# Altium footprint library Microchip PIC18.PcbLib: 79 footprints (part 1 of 5)
Each footprint in its own frame and in the unit in brackets; x right, y up, seen from the top. Pads: shape width x height; smd on the part's side, far side on the other; paste and mask are expansions set on the pad; w line width, h text height; cw(c..) or ccw(c..) is an arc to the next point about the centre after c.
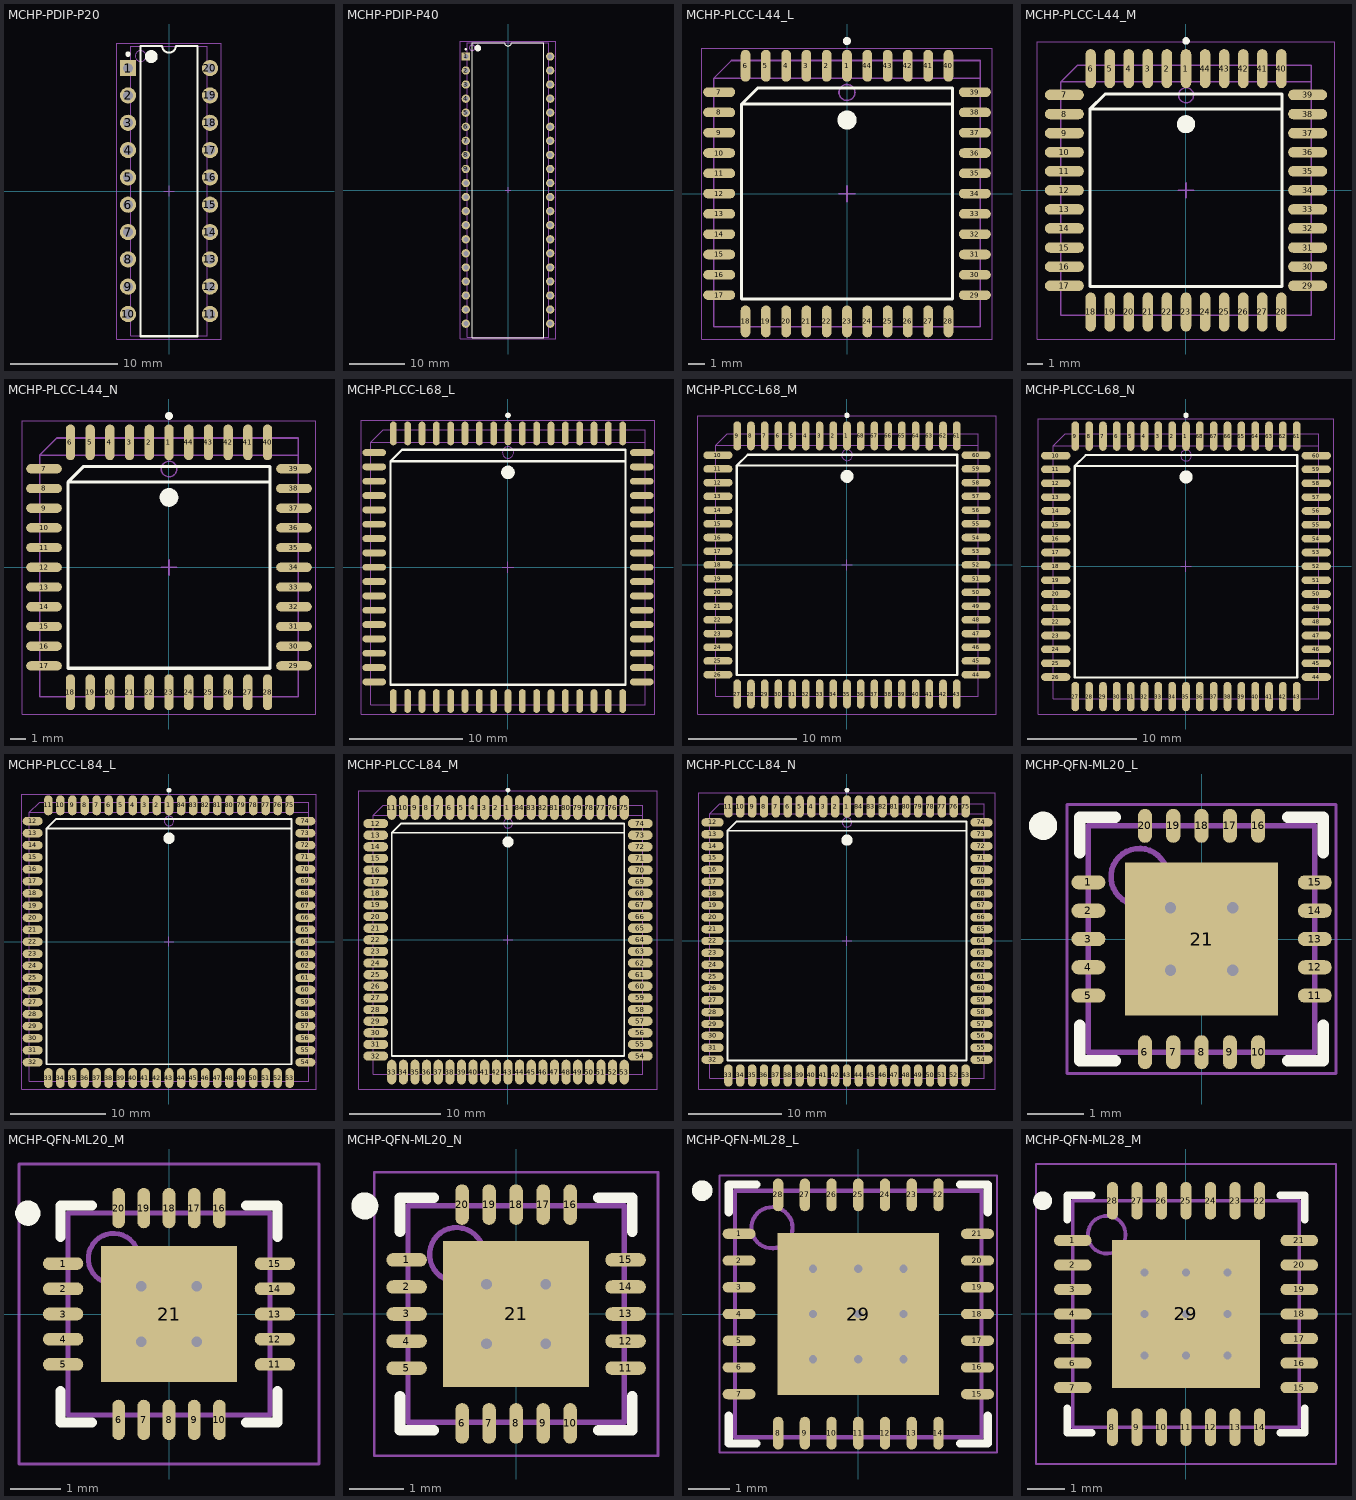
[diagram p0: the footprints below, top view; thin cyan lines are the x and y axes]

## MCHP-PDIP-P20 [mm] "DIP, 20-Leads, Body 25.91x6.6mm, Pitch 2.54mm"
height 5.33
pads (20):
  rect 1.5x1.5 hole 0.9: 1(-3.81,11.43)
  round 1.5 hole 0.9: 2(-3.81,8.89) 3(-3.81,6.35) 4(-3.81,3.81) 5(-3.81,1.27) 6(-3.81,-1.27) 7(-3.81,-3.81) 8(-3.81,-6.35) 9(-3.81,-8.89) 10(-3.81,-11.43) 11(3.81,-11.43) 12(3.81,-8.89) 13(3.81,-6.35) 14(3.81,-3.81) 15(3.81,-1.27) 16(3.81,1.27) 17(3.81,3.81) 18(3.81,6.35) 19(3.81,8.89) 20(3.81,11.43)
Top Overlay:
  circle w0.6: c-1.65,12.5 r0.3
  circle w0.25: c-3.81,12.73 r0.125
  lines w0.2: -2.65,-13.5 2.65,-13.5 2.65,13.5 0.635,13.5 cw(c0,13.5) -0.635,13.5 -2.65,13.5 -2.65,-13.5
Mechanical 13:
  circle w0.1: c-2.65,12.55 r0.5
  lines w0.1: -3.55,-13.45 3.55,-13.45 3.55,13.45 -3.55,13.45 -3.55,-13.45
Mechanical 15:
  lines w0.05: -4.85,-13.75 4.85,-13.75 4.85,13.75 -4.85,13.75 -4.85,-13.75
  lines w0.1: -0.5,0 0.5,0 ; 0,-0.5 0,0.5
3D body: height 5.33, standoff 0.38, extent -3.55,-13.45 3.55,13.45
3D body: height 0, standoff -1.6, extent 3.675,11.07 3.945,11.79
3D body: height 2.99, standoff 2.72, extent 3.55,10.93 3.945,11.93
3D body: height 2.72, standoff 0, extent 3.675,10.93 3.945,11.93
3D body: height 0, standoff -1.6, extent 3.675,8.53 3.945,9.25
3D body: height 2.99, standoff 2.72, extent 3.55,8.39 3.945,9.39
3D body: height 2.72, standoff 0, extent 3.675,8.39 3.945,9.39
3D body: height 0, standoff -1.6, extent 3.675,5.99 3.945,6.71
3D body: height 2.99, standoff 2.72, extent 3.55,5.85 3.945,6.85
3D body: height 2.72, standoff 0, extent 3.675,5.85 3.945,6.85
3D body: height 0, standoff -1.6, extent 3.675,3.45 3.945,4.17
3D body: height 2.99, standoff 2.72, extent 3.55,3.31 3.945,4.31
3D body: height 2.72, standoff 0, extent 3.675,3.31 3.945,4.31
3D body: height 0, standoff -1.6, extent 3.675,0.91 3.945,1.63
3D body: height 2.99, standoff 2.72, extent 3.55,0.77 3.945,1.77
3D body: height 2.72, standoff 0, extent 3.675,0.77 3.945,1.77
3D body: height 0, standoff -1.6, extent 3.675,-1.63 3.945,-0.91
3D body: height 2.99, standoff 2.72, extent 3.55,-1.77 3.945,-0.77
3D body: height 2.72, standoff 0, extent 3.675,-1.77 3.945,-0.77
3D body: height 0, standoff -1.6, extent 3.675,-4.17 3.945,-3.45
3D body: height 2.99, standoff 2.72, extent 3.55,-4.31 3.945,-3.31
3D body: height 2.72, standoff 0, extent 3.675,-4.31 3.945,-3.31
3D body: height 0, standoff -1.6, extent 3.675,-6.71 3.945,-5.99
3D body: height 2.99, standoff 2.72, extent 3.55,-6.85 3.945,-5.85
3D body: height 2.72, standoff 0, extent 3.675,-6.85 3.945,-5.85
3D body: height 0, standoff -1.6, extent 3.675,-9.25 3.945,-8.53
3D body: height 2.99, standoff 2.72, extent 3.55,-9.39 3.945,-8.39
3D body: height 2.72, standoff 0, extent 3.675,-9.39 3.945,-8.39
3D body: height 0, standoff -1.6, extent 3.675,-11.79 3.945,-11.07
3D body: height 2.99, standoff 2.72, extent 3.55,-11.93 3.945,-10.93
3D body: height 2.72, standoff 0, extent 3.675,-11.93 3.945,-10.93
3D body: height 0, standoff -1.6, extent -3.945,-11.79 -3.675,-11.07
3D body: height 2.99, standoff 2.72, extent -3.945,-11.93 -3.55,-10.93
3D body: height 2.72, standoff 0, extent -3.945,-11.93 -3.675,-10.93
3D body: height 0, standoff -1.6, extent -3.945,-9.25 -3.675,-8.53
3D body: height 2.99, standoff 2.72, extent -3.945,-9.39 -3.55,-8.39
3D body: height 2.72, standoff 0, extent -3.945,-9.39 -3.675,-8.39
3D body: height 0, standoff -1.6, extent -3.945,-6.71 -3.675,-5.99
3D body: height 2.99, standoff 2.72, extent -3.945,-6.85 -3.55,-5.85
3D body: height 2.72, standoff 0, extent -3.945,-6.85 -3.675,-5.85
3D body: height 0, standoff -1.6, extent -3.945,-4.17 -3.675,-3.45
3D body: height 2.99, standoff 2.72, extent -3.945,-4.31 -3.55,-3.31
3D body: height 2.72, standoff 0, extent -3.945,-4.31 -3.675,-3.31
3D body: height 0, standoff -1.6, extent -3.945,-1.63 -3.675,-0.91
3D body: height 2.99, standoff 2.72, extent -3.945,-1.77 -3.55,-0.77
3D body: height 2.72, standoff 0, extent -3.945,-1.77 -3.675,-0.77
3D body: height 0, standoff -1.6, extent -3.945,0.91 -3.675,1.63
3D body: height 2.99, standoff 2.72, extent -3.945,0.77 -3.55,1.77
3D body: height 2.72, standoff 0, extent -3.945,0.77 -3.675,1.77
3D body: height 0, standoff -1.6, extent -3.945,3.45 -3.675,4.17
3D body: height 2.99, standoff 2.72, extent -3.945,3.31 -3.55,4.31
3D body: height 2.72, standoff 0, extent -3.945,3.31 -3.675,4.31
3D body: height 0, standoff -1.6, extent -3.945,5.99 -3.675,6.71
3D body: height 2.99, standoff 2.72, extent -3.945,5.85 -3.55,6.85
3D body: height 2.72, standoff 0, extent -3.945,5.85 -3.675,6.85
3D body: height 0, standoff -1.6, extent -3.945,8.53 -3.675,9.25
3D body: height 2.99, standoff 2.72, extent -3.945,8.39 -3.55,9.39
3D body: height 2.72, standoff 0, extent -3.945,8.39 -3.675,9.39
3D body: height 0, standoff -1.6, extent -3.945,11.07 -3.675,11.79
3D body: height 2.99, standoff 2.72, extent -3.945,10.93 -3.55,11.93
3D body: height 2.72, standoff 0, extent -3.945,10.93 -3.675,11.93

## MCHP-PDIP-P40 [mm] "PDIP, 40-Leads, Body 51.75x13.53mm, Pitch 2.54mm"
height 6.35
pads (40):
  rect 1.5x1.5 hole 0.9: 1(-7.62,24.13)
  round 1.5 hole 0.9: 2(-7.62,21.59) 3(-7.62,19.05) 4(-7.62,16.51) 5(-7.62,13.97) 6(-7.62,11.43) 7(-7.62,8.89) 8(-7.62,6.35) 9(-7.62,3.81) 10(-7.62,1.27) 11(-7.62,-1.27) 12(-7.62,-3.81) 13(-7.62,-6.35) 14(-7.62,-8.89) 15(-7.62,-11.43) 16(-7.62,-13.97) 17(-7.62,-16.51) 18(-7.62,-19.05) 19(-7.62,-21.59) 20(-7.62,-24.13) 21(7.62,-24.13) 22(7.62,-21.59) 23(7.62,-19.05) 24(7.62,-16.51) 25(7.62,-13.97) 26(7.62,-11.43) 27(7.62,-8.89) 28(7.62,-6.35) 29(7.62,-3.81) 30(7.62,-1.27) 31(7.62,1.27) 32(7.62,3.81) 33(7.62,6.35) 34(7.62,8.89) 35(7.62,11.43) 36(7.62,13.97) 37(7.62,16.51) 38(7.62,19.05) 39(7.62,21.59) 40(7.62,24.13)
Top Overlay:
  circle w0.25: c-7.62,25.43 r0.125
  circle w0.6: c-5.45,25.65 r0.3
  lines w0.2: -6.45,-26.65 -6.45,26.65 -0.635,26.65 ccw(c0,26.65) 0.635,26.65 6.45,26.65 6.45,-26.65 -6.45,-26.65
Mechanical 13:
  circle w0.1: c-6.475,25.7 r0.5
  lines w0.1: -7.375,-26.6 -7.375,26.6 7.375,26.6 7.375,-26.6 -7.375,-26.6
Mechanical 15:
  lines w0.05: -8.65,-26.9 -8.65,26.9 8.65,26.9 8.65,-26.9 -8.65,-26.9
  lines w0.1: -0.5,0 0.5,0 ; 0,-0.5 0,0.5
3D body: height 3.24, standoff 0, extent -7.755,23.63 -7.485,24.63
3D body: height 3.51, standoff 3.23, extent -7.755,23.63 -7.375,24.63
3D body: height 0, standoff -1.6, extent -7.755,23.77 -7.485,24.49
3D body: height 3.24, standoff 0, extent -7.755,21.09 -7.485,22.09
3D body: height 3.51, standoff 3.23, extent -7.755,21.09 -7.375,22.09
3D body: height 0, standoff -1.6, extent -7.755,21.23 -7.485,21.95
3D body: height 3.24, standoff 0, extent -7.755,18.55 -7.485,19.55
3D body: height 3.51, standoff 3.23, extent -7.755,18.55 -7.375,19.55
3D body: height 0, standoff -1.6, extent -7.755,18.69 -7.485,19.41
3D body: height 3.24, standoff 0, extent -7.755,16.01 -7.485,17.01
3D body: height 3.51, standoff 3.23, extent -7.755,16.01 -7.375,17.01
3D body: height 0, standoff -1.6, extent -7.755,16.15 -7.485,16.87
3D body: height 3.24, standoff 0, extent -7.755,13.47 -7.485,14.47
3D body: height 3.51, standoff 3.23, extent -7.755,13.47 -7.375,14.47
3D body: height 0, standoff -1.6, extent -7.755,13.61 -7.485,14.33
3D body: height 3.24, standoff 0, extent -7.755,10.93 -7.485,11.93
3D body: height 3.51, standoff 3.23, extent -7.755,10.93 -7.375,11.93
3D body: height 0, standoff -1.6, extent -7.755,11.07 -7.485,11.79
3D body: height 3.24, standoff 0, extent -7.755,8.39 -7.485,9.39
3D body: height 3.51, standoff 3.23, extent -7.755,8.39 -7.375,9.39
3D body: height 0, standoff -1.6, extent -7.755,8.53 -7.485,9.25
3D body: height 3.24, standoff 0, extent -7.755,5.85 -7.485,6.85
3D body: height 3.51, standoff 3.23, extent -7.755,5.85 -7.375,6.85
3D body: height 0, standoff -1.6, extent -7.755,5.99 -7.485,6.71
3D body: height 3.24, standoff 0, extent -7.755,3.31 -7.485,4.31
3D body: height 3.51, standoff 3.23, extent -7.755,3.31 -7.375,4.31
3D body: height 0, standoff -1.6, extent -7.755,3.45 -7.485,4.17
3D body: height 3.24, standoff 0, extent -7.755,0.77 -7.485,1.77
3D body: height 3.51, standoff 3.23, extent -7.755,0.77 -7.375,1.77
3D body: height 0, standoff -1.6, extent -7.755,0.91 -7.485,1.63
3D body: height 3.24, standoff 0, extent -7.755,-1.77 -7.485,-0.77
3D body: height 3.51, standoff 3.23, extent -7.755,-1.77 -7.375,-0.77
3D body: height 0, standoff -1.6, extent -7.755,-1.63 -7.485,-0.91
3D body: height 3.24, standoff 0, extent -7.755,-4.31 -7.485,-3.31
3D body: height 3.51, standoff 3.23, extent -7.755,-4.31 -7.375,-3.31
3D body: height 0, standoff -1.6, extent -7.755,-4.17 -7.485,-3.45
3D body: height 3.24, standoff 0, extent -7.755,-6.85 -7.485,-5.85
3D body: height 3.51, standoff 3.23, extent -7.755,-6.85 -7.375,-5.85
3D body: height 0, standoff -1.6, extent -7.755,-6.71 -7.485,-5.99
3D body: height 3.24, standoff 0, extent -7.755,-9.39 -7.485,-8.39
3D body: height 3.51, standoff 3.23, extent -7.755,-9.39 -7.375,-8.39
3D body: height 0, standoff -1.6, extent -7.755,-9.25 -7.485,-8.53
3D body: height 3.24, standoff 0, extent -7.755,-11.93 -7.485,-10.93
3D body: height 3.51, standoff 3.23, extent -7.755,-11.93 -7.375,-10.93
3D body: height 0, standoff -1.6, extent -7.755,-11.79 -7.485,-11.07
3D body: height 3.24, standoff 0, extent -7.755,-14.47 -7.485,-13.47
3D body: height 3.51, standoff 3.23, extent -7.755,-14.47 -7.375,-13.47
3D body: height 0, standoff -1.6, extent -7.755,-14.33 -7.485,-13.61
3D body: height 3.24, standoff 0, extent -7.755,-17.01 -7.485,-16.01
3D body: height 3.51, standoff 3.23, extent -7.755,-17.01 -7.375,-16.01
3D body: height 0, standoff -1.6, extent -7.755,-16.87 -7.485,-16.15
3D body: height 3.24, standoff 0, extent -7.755,-19.55 -7.485,-18.55
3D body: height 3.51, standoff 3.23, extent -7.755,-19.55 -7.375,-18.55
3D body: height 0, standoff -1.6, extent -7.755,-19.41 -7.485,-18.69
3D body: height 3.24, standoff 0, extent -7.755,-22.09 -7.485,-21.09
3D body: height 3.51, standoff 3.23, extent -7.755,-22.09 -7.375,-21.09
3D body: height 0, standoff -1.6, extent -7.755,-21.95 -7.485,-21.23
3D body: height 3.24, standoff 0, extent -7.755,-24.63 -7.485,-23.63
3D body: height 3.51, standoff 3.23, extent -7.755,-24.63 -7.375,-23.63
3D body: height 0, standoff -1.6, extent -7.755,-24.49 -7.485,-23.77
3D body: height 3.24, standoff 0, extent 7.485,-24.63 7.755,-23.63
3D body: height 3.51, standoff 3.23, extent 7.375,-24.63 7.755,-23.63
3D body: height 0, standoff -1.6, extent 7.485,-24.49 7.755,-23.77
3D body: height 3.24, standoff 0, extent 7.485,-22.09 7.755,-21.09
3D body: height 3.51, standoff 3.23, extent 7.375,-22.09 7.755,-21.09
3D body: height 0, standoff -1.6, extent 7.485,-21.95 7.755,-21.23
3D body: height 3.24, standoff 0, extent 7.485,-19.55 7.755,-18.55
3D body: height 3.51, standoff 3.23, extent 7.375,-19.55 7.755,-18.55
3D body: height 0, standoff -1.6, extent 7.485,-19.41 7.755,-18.69
3D body: height 3.24, standoff 0, extent 7.485,-17.01 7.755,-16.01
3D body: height 3.51, standoff 3.23, extent 7.375,-17.01 7.755,-16.01
3D body: height 0, standoff -1.6, extent 7.485,-16.87 7.755,-16.15
3D body: height 3.24, standoff 0, extent 7.485,-14.47 7.755,-13.47
3D body: height 3.51, standoff 3.23, extent 7.375,-14.47 7.755,-13.47
3D body: height 0, standoff -1.6, extent 7.485,-14.33 7.755,-13.61
3D body: height 3.24, standoff 0, extent 7.485,-11.93 7.755,-10.93
3D body: height 3.51, standoff 3.23, extent 7.375,-11.93 7.755,-10.93
3D body: height 0, standoff -1.6, extent 7.485,-11.79 7.755,-11.07
3D body: height 3.24, standoff 0, extent 7.485,-9.39 7.755,-8.39
3D body: height 3.51, standoff 3.23, extent 7.375,-9.39 7.755,-8.39
3D body: height 0, standoff -1.6, extent 7.485,-9.25 7.755,-8.53
3D body: height 3.24, standoff 0, extent 7.485,-6.85 7.755,-5.85
3D body: height 3.51, standoff 3.23, extent 7.375,-6.85 7.755,-5.85
3D body: height 0, standoff -1.6, extent 7.485,-6.71 7.755,-5.99
3D body: height 3.24, standoff 0, extent 7.485,-4.31 7.755,-3.31
3D body: height 3.51, standoff 3.23, extent 7.375,-4.31 7.755,-3.31
3D body: height 0, standoff -1.6, extent 7.485,-4.17 7.755,-3.45
3D body: height 3.24, standoff 0, extent 7.485,-1.77 7.755,-0.77
3D body: height 3.51, standoff 3.23, extent 7.375,-1.77 7.755,-0.77
3D body: height 0, standoff -1.6, extent 7.485,-1.63 7.755,-0.91
3D body: height 3.24, standoff 0, extent 7.485,0.77 7.755,1.77
3D body: height 3.51, standoff 3.23, extent 7.375,0.77 7.755,1.77
3D body: height 0, standoff -1.6, extent 7.485,0.91 7.755,1.63
3D body: height 3.24, standoff 0, extent 7.485,3.31 7.755,4.31
3D body: height 3.51, standoff 3.23, extent 7.375,3.31 7.755,4.31
3D body: height 0, standoff -1.6, extent 7.485,3.45 7.755,4.17
3D body: height 3.24, standoff 0, extent 7.485,5.85 7.755,6.85
3D body: height 3.51, standoff 3.23, extent 7.375,5.85 7.755,6.85
3D body: height 0, standoff -1.6, extent 7.485,5.99 7.755,6.71
3D body: height 3.24, standoff 0, extent 7.485,8.39 7.755,9.39
3D body: height 3.51, standoff 3.23, extent 7.375,8.39 7.755,9.39
3D body: height 0, standoff -1.6, extent 7.485,8.53 7.755,9.25
3D body: height 3.24, standoff 0, extent 7.485,10.93 7.755,11.93
3D body: height 3.51, standoff 3.23, extent 7.375,10.93 7.755,11.93
3D body: height 0, standoff -1.6, extent 7.485,11.07 7.755,11.79
3D body: height 3.24, standoff 0, extent 7.485,13.47 7.755,14.47
3D body: height 3.51, standoff 3.23, extent 7.375,13.47 7.755,14.47
3D body: height 0, standoff -1.6, extent 7.485,13.61 7.755,14.33
3D body: height 3.24, standoff 0, extent 7.485,16.01 7.755,17.01
3D body: height 3.51, standoff 3.23, extent 7.375,16.01 7.755,17.01
3D body: height 0, standoff -1.6, extent 7.485,16.15 7.755,16.87
3D body: height 3.24, standoff 0, extent 7.485,18.55 7.755,19.55
3D body: height 3.51, standoff 3.23, extent 7.375,18.55 7.755,19.55
3D body: height 0, standoff -1.6, extent 7.485,18.69 7.755,19.41
3D body: height 3.24, standoff 0, extent 7.485,21.09 7.755,22.09
3D body: height 3.51, standoff 3.23, extent 7.375,21.09 7.755,22.09
3D body: height 0, standoff -1.6, extent 7.485,21.23 7.755,21.95
3D body: height 3.24, standoff 0, extent 7.485,23.63 7.755,24.63
3D body: height 3.51, standoff 3.23, extent 7.375,23.63 7.755,24.63
3D body: height 0, standoff -1.6, extent 7.485,23.77 7.755,24.49
3D body: height 6.35, standoff 0.38, extent -7.375,-26.6 7.375,26.6

## MCHP-PLCC-L44_L [mm] "PLCC, 44-Leads, Body 16.586x16.586mm, Pitch 1.27mm, IPC High Density"
height 4.58
pads (44):
  oval 0.6x2 smd: 1(0,8) 2(-1.27,8) 3(-2.54,8) 4(-3.81,8) 5(-5.08,8) 6(-6.35,8) 18(-6.35,-8) 19(-5.08,-8) 20(-3.81,-8) 21(-2.54,-8) 22(-1.27,-8) 23(0,-8) 24(1.27,-8) 25(2.54,-8) 26(3.81,-8) 27(5.08,-8) 28(6.35,-8) 40(6.35,8) 41(5.08,8) 42(3.81,8) 43(2.54,8) 44(1.27,8)
  oval 2x0.6 smd: 7(-8,6.35) 8(-8,5.08) 9(-8,3.81) 10(-8,2.54) 11(-8,1.27) 12(-8,0) 13(-8,-1.27) 14(-8,-2.54) 15(-8,-3.81) 16(-8,-5.08) 17(-8,-6.35) 29(8,-6.35) 30(8,-5.08) 31(8,-3.81) 32(8,-2.54) 33(8,-1.27) 34(8,0) 35(8,1.27) 36(8,2.54) 37(8,3.81) 38(8,5.08) 39(8,6.35)
Top Overlay:
  circle w0.25: c0,9.55 r0.125
  circle w0.6: c0,4.6 r0.3
  lines w0.2: 6.6,5.6 -6.6,5.6 ; -6.6,5.6 -5.6,6.6 6.6,6.6 6.6,-6.6 -6.6,-6.6 -6.6,5.6
Mechanical 13:
  circle w0.1: c0,6.33 r0.5
  lines w0.1: 8.33,7.23 -8.33,7.23 ; -8.33,7.23 -8.33,-8.33 8.33,-8.33 8.33,8.33 -7.23,8.33 -8.33,7.23
Mechanical 15:
  lines w0.05: -9.1,-9.1 -9.1,9.1 9.1,9.1 9.1,-9.1 -9.1,-9.1
  lines w0.1: -0.5,0 0.5,0 ; 0,-0.5 0,0.5
3D body: height 4.58, standoff 0.51, extent -8.33,-8.33 8.33,8.33

## MCHP-PLCC-L44_M [mm] "PLCC, 44-Leads, Body 16.586x16.586mm, Pitch 1.27mm, IPC Low Density"
height 4.58
pads (44):
  oval 0.7x2.6 smd: 1(0,8.1) 2(-1.27,8.1) 3(-2.54,8.1) 4(-3.81,8.1) 5(-5.08,8.1) 6(-6.35,8.1) 18(-6.35,-8.1) 19(-5.08,-8.1) 20(-3.81,-8.1) 21(-2.54,-8.1) 22(-1.27,-8.1) 23(0,-8.1) 24(1.27,-8.1) 25(2.54,-8.1) 26(3.81,-8.1) 27(5.08,-8.1) 28(6.35,-8.1) 40(6.35,8.1) 41(5.08,8.1) 42(3.81,8.1) 43(2.54,8.1) 44(1.27,8.1)
  oval 2.6x0.7 smd: 7(-8.1,6.35) 8(-8.1,5.08) 9(-8.1,3.81) 10(-8.1,2.54) 11(-8.1,1.27) 12(-8.1,0) 13(-8.1,-1.27) 14(-8.1,-2.54) 15(-8.1,-3.81) 16(-8.1,-5.08) 17(-8.1,-6.35) 29(8.1,-6.35) 30(8.1,-5.08) 31(8.1,-3.81) 32(8.1,-2.54) 33(8.1,-1.27) 34(8.1,0) 35(8.1,1.27) 36(8.1,2.54) 37(8.1,3.81) 38(8.1,5.08) 39(8.1,6.35)
Top Overlay:
  circle w0.25: c0,9.95 r0.125
  circle w0.6: c0,4.4 r0.3
  lines w0.2: 6.4,5.4 -6.4,5.4 ; -6.4,5.4 -5.4,6.4 6.4,6.4 6.4,-6.4 -6.4,-6.4 -6.4,5.4
Mechanical 13:
  circle w0.1: c0,6.33 r0.5
  lines w0.1: 8.33,7.23 -8.33,7.23 ; -8.33,7.23 -8.33,-8.33 8.33,-8.33 8.33,8.33 -7.23,8.33 -8.33,7.23
Mechanical 15:
  lines w0.05: -9.9,-9.9 -9.9,9.9 9.9,9.9 9.9,-9.9 -9.9,-9.9
  lines w0.1: -0.5,0 0.5,0 ; 0,-0.5 0,0.5
3D body: height 4.58, standoff 0.51, extent -8.33,-8.33 8.33,8.33

## MCHP-PLCC-L44_N [mm] "PLCC, 44-Leads, Body 16.586x16.586mm, Pitch 1.27mm, IPC Medium Density"
height 4.58
pads (44):
  oval 0.6x2.3 smd: 1(0,8.05) 2(-1.27,8.05) 3(-2.54,8.05) 4(-3.81,8.05) 5(-5.08,8.05) 6(-6.35,8.05) 18(-6.35,-8.05) 19(-5.08,-8.05) 20(-3.81,-8.05) 21(-2.54,-8.05) 22(-1.27,-8.05) 23(0,-8.05) 24(1.27,-8.05) 25(2.54,-8.05) 26(3.81,-8.05) 27(5.08,-8.05) 28(6.35,-8.05) 40(6.35,8.05) 41(5.08,8.05) 42(3.81,8.05) 43(2.54,8.05) 44(1.27,8.05)
  oval 2.3x0.6 smd: 7(-8.05,6.35) 8(-8.05,5.08) 9(-8.05,3.81) 10(-8.05,2.54) 11(-8.05,1.27) 12(-8.05,0) 13(-8.05,-1.27) 14(-8.05,-2.54) 15(-8.05,-3.81) 16(-8.05,-5.08) 17(-8.05,-6.35) 29(8.05,-6.35) 30(8.05,-5.08) 31(8.05,-3.81) 32(8.05,-2.54) 33(8.05,-1.27) 34(8.05,0) 35(8.05,1.27) 36(8.05,2.54) 37(8.05,3.81) 38(8.05,5.08) 39(8.05,6.35)
Top Overlay:
  circle w0.25: c0,9.75 r0.125
  circle w0.6: c0,4.5 r0.3
  lines w0.2: 6.5,5.5 -6.5,5.5 ; -6.5,5.5 -5.5,6.5 6.5,6.5 6.5,-6.5 -6.5,-6.5 -6.5,5.5
Mechanical 13:
  circle w0.1: c0,6.33 r0.5
  lines w0.1: 8.33,7.23 -8.33,7.23 ; -8.33,7.23 -8.33,-8.33 8.33,-8.33 8.33,8.33 -7.23,8.33 -8.33,7.23
Mechanical 15:
  lines w0.05: -9.45,-9.45 -9.45,9.45 9.45,9.45 9.45,-9.45 -9.45,-9.45
  lines w0.1: -0.5,0 0.5,0 ; 0,-0.5 0,0.5
3D body: height 4.58, standoff 0.51, extent -8.33,-8.33 8.33,8.33

## MCHP-PLCC-L68_L [mm] "PLCC, 68-Leads, Body 24.23x24.23mm, Pitch 1.27mm, IPC High Density"
height 4.58
pads (68):
  oval 0.6x2.1 smd: 1(0,11.85) 2(-1.27,11.85) 3(-2.54,11.85) 4(-3.81,11.85) 5(-5.08,11.85) 6(-6.35,11.85) 7(-7.62,11.85) 8(-8.89,11.85) 9(-10.16,11.85) 27(-10.16,-11.85) 28(-8.89,-11.85) 29(-7.62,-11.85) 30(-6.35,-11.85) 31(-5.08,-11.85) 32(-3.81,-11.85) 33(-2.54,-11.85) 34(-1.27,-11.85) 35(0,-11.85) 36(1.27,-11.85) 37(2.54,-11.85) 38(3.81,-11.85) 39(5.08,-11.85) 40(6.35,-11.85) 41(7.62,-11.85) 42(8.89,-11.85) 43(10.16,-11.85) 61(10.16,11.85) 62(8.89,11.85) 63(7.62,11.85) 64(6.35,11.85) 65(5.08,11.85) 66(3.81,11.85) 67(2.54,11.85) 68(1.27,11.85)
  oval 2.1x0.6 smd: 10(-11.85,10.16) 11(-11.85,8.89) 12(-11.85,7.62) 13(-11.85,6.35) 14(-11.85,5.08) 15(-11.85,3.81) 16(-11.85,2.54) 17(-11.85,1.27) 18(-11.85,0) 19(-11.85,-1.27) 20(-11.85,-2.54) 21(-11.85,-3.81) 22(-11.85,-5.08) 23(-11.85,-6.35) 24(-11.85,-7.62) 25(-11.85,-8.89) 26(-11.85,-10.16) 44(11.85,-10.16) 45(11.85,-8.89) 46(11.85,-7.62) 47(11.85,-6.35) 48(11.85,-5.08) 49(11.85,-3.81) 50(11.85,-2.54) 51(11.85,-1.27) 52(11.85,0) 53(11.85,1.27) 54(11.85,2.54) 55(11.85,3.81) 56(11.85,5.08) 57(11.85,6.35) 58(11.85,7.62) 59(11.85,8.89) 60(11.85,10.16)
Top Overlay:
  circle w0.25: c0,13.45 r0.125
  circle w0.6: c0,8.4 r0.3
  lines w0.2: 10.4,9.4 -10.4,9.4 ; -10.4,9.4 -9.4,10.4 10.4,10.4 10.4,-10.4 -10.4,-10.4 -10.4,9.4
Mechanical 13:
  circle w0.1: c0,10.165 r0.5
  lines w0.1: 12.165,11.065 -12.165,11.065 ; -12.165,11.065 -12.165,-12.165 12.165,-12.165 12.165,12.165 -11.065,12.165 -12.165,11.065
Mechanical 15:
  lines w0.05: -13,-13 -13,13 13,13 13,-13 -13,-13
  lines w0.1: -0.5,0 0.5,0 ; 0,-0.5 0,0.5
3D body: height 4.58, standoff 0.51, extent -12.165,-12.165 12.165,12.165

## MCHP-PLCC-L68_M [mm] "PLCC, 68-Leads, Body 24.23x24.23mm, Pitch 1.27mm, IPC Low Density"
height 4.58
pads (68):
  oval 0.7x2.7 smd: 1(0,11.95) 2(-1.27,11.95) 3(-2.54,11.95) 4(-3.81,11.95) 5(-5.08,11.95) 6(-6.35,11.95) 7(-7.62,11.95) 8(-8.89,11.95) 9(-10.16,11.95) 27(-10.16,-11.95) 28(-8.89,-11.95) 29(-7.62,-11.95) 30(-6.35,-11.95) 31(-5.08,-11.95) 32(-3.81,-11.95) 33(-2.54,-11.95) 34(-1.27,-11.95) 35(0,-11.95) 36(1.27,-11.95) 37(2.54,-11.95) 38(3.81,-11.95) 39(5.08,-11.95) 40(6.35,-11.95) 41(7.62,-11.95) 42(8.89,-11.95) 43(10.16,-11.95) 61(10.16,11.95) 62(8.89,11.95) 63(7.62,11.95) 64(6.35,11.95) 65(5.08,11.95) 66(3.81,11.95) 67(2.54,11.95) 68(1.27,11.95)
  oval 2.7x0.7 smd: 10(-11.95,10.16) 11(-11.95,8.89) 12(-11.95,7.62) 13(-11.95,6.35) 14(-11.95,5.08) 15(-11.95,3.81) 16(-11.95,2.54) 17(-11.95,1.27) 18(-11.95,0) 19(-11.95,-1.27) 20(-11.95,-2.54) 21(-11.95,-3.81) 22(-11.95,-5.08) 23(-11.95,-6.35) 24(-11.95,-7.62) 25(-11.95,-8.89) 26(-11.95,-10.16) 44(11.95,-10.16) 45(11.95,-8.89) 46(11.95,-7.62) 47(11.95,-6.35) 48(11.95,-5.08) 49(11.95,-3.81) 50(11.95,-2.54) 51(11.95,-1.27) 52(11.95,0) 53(11.95,1.27) 54(11.95,2.54) 55(11.95,3.81) 56(11.95,5.08) 57(11.95,6.35) 58(11.95,7.62) 59(11.95,8.89) 60(11.95,10.16)
Top Overlay:
  circle w0.25: c0,13.85 r0.125
  circle w0.6: c0,8.2 r0.3
  lines w0.2: 10.2,9.2 -10.2,9.2 ; -10.2,9.2 -9.2,10.2 10.2,10.2 10.2,-10.2 -10.2,-10.2 -10.2,9.2
Mechanical 13:
  circle w0.1: c0,10.165 r0.5
  lines w0.1: 12.165,11.065 -12.165,11.065 ; -12.165,11.065 -12.165,-12.165 12.165,-12.165 12.165,12.165 -11.065,12.165 -12.165,11.065
Mechanical 15:
  lines w0.05: -13.8,-13.8 -13.8,13.8 13.8,13.8 13.8,-13.8 -13.8,-13.8
  lines w0.1: -0.5,0 0.5,0 ; 0,-0.5 0,0.5
3D body: height 4.58, standoff 0.51, extent -12.165,-12.165 12.165,12.165

## MCHP-PLCC-L68_N [mm] "PLCC, 68-Leads, Body 24.23x24.23mm, Pitch 1.27mm, IPC Medium Density"
height 4.58
pads (68):
  oval 0.7x2.7 smd: 1(0,11.95) 2(-1.27,11.95) 3(-2.54,11.95) 4(-3.81,11.95) 5(-5.08,11.95) 6(-6.35,11.95) 7(-7.62,11.95) 8(-8.89,11.95) 9(-10.16,11.95) 27(-10.16,-11.95) 28(-8.89,-11.95) 29(-7.62,-11.95) 30(-6.35,-11.95) 31(-5.08,-11.95) 32(-3.81,-11.95) 33(-2.54,-11.95) 34(-1.27,-11.95) 35(0,-11.95) 36(1.27,-11.95) 37(2.54,-11.95) 38(3.81,-11.95) 39(5.08,-11.95) 40(6.35,-11.95) 41(7.62,-11.95) 42(8.89,-11.95) 43(10.16,-11.95) 61(10.16,11.95) 62(8.89,11.95) 63(7.62,11.95) 64(6.35,11.95) 65(5.08,11.95) 66(3.81,11.95) 67(2.54,11.95) 68(1.27,11.95)
  oval 2.7x0.7 smd: 10(-11.95,10.16) 11(-11.95,8.89) 12(-11.95,7.62) 13(-11.95,6.35) 14(-11.95,5.08) 15(-11.95,3.81) 16(-11.95,2.54) 17(-11.95,1.27) 18(-11.95,0) 19(-11.95,-1.27) 20(-11.95,-2.54) 21(-11.95,-3.81) 22(-11.95,-5.08) 23(-11.95,-6.35) 24(-11.95,-7.62) 25(-11.95,-8.89) 26(-11.95,-10.16) 44(11.95,-10.16) 45(11.95,-8.89) 46(11.95,-7.62) 47(11.95,-6.35) 48(11.95,-5.08) 49(11.95,-3.81) 50(11.95,-2.54) 51(11.95,-1.27) 52(11.95,0) 53(11.95,1.27) 54(11.95,2.54) 55(11.95,3.81) 56(11.95,5.08) 57(11.95,6.35) 58(11.95,7.62) 59(11.95,8.89) 60(11.95,10.16)
Top Overlay:
  circle w0.25: c0,13.85 r0.125
  circle w0.6: c0,8.2 r0.3
  lines w0.2: 10.2,9.2 -10.2,9.2 ; -10.2,9.2 -9.2,10.2 10.2,10.2 10.2,-10.2 -10.2,-10.2 -10.2,9.2
Mechanical 13:
  circle w0.1: c0,10.165 r0.5
  lines w0.1: 12.165,11.065 -12.165,11.065 ; -12.165,11.065 -12.165,-12.165 12.165,-12.165 12.165,12.165 -11.065,12.165 -12.165,11.065
Mechanical 15:
  lines w0.05: -13.55,-13.55 -13.55,13.55 13.55,13.55 13.55,-13.55 -13.55,-13.55
  lines w0.1: -0.5,0 0.5,0 ; 0,-0.5 0,0.5
3D body: height 4.58, standoff 0.51, extent -12.165,-12.165 12.165,12.165

## MCHP-PLCC-L84_L [mm] "PLCC, 84-Lead, Body 29.31x29.31mm, Pitch 1.27mm, IPC High Density"
height 5.08
pads (84):
  oval 0.9x2.1 smd: 1(0,14.35) 2(-1.27,14.35) 3(-2.54,14.35) 4(-3.81,14.35) 5(-5.08,14.35) 6(-6.35,14.35) 7(-7.62,14.35) 8(-8.89,14.35) 9(-10.16,14.35) 10(-11.43,14.35) 11(-12.7,14.35) 33(-12.7,-14.35) 34(-11.43,-14.35) 35(-10.16,-14.35) 36(-8.89,-14.35) 37(-7.62,-14.35) 38(-6.35,-14.35) 39(-5.08,-14.35) 40(-3.81,-14.35) 41(-2.54,-14.35) 42(-1.27,-14.35) 43(0,-14.35) 44(1.27,-14.35) 45(2.54,-14.35) 46(3.81,-14.35) 47(5.08,-14.35) 48(6.35,-14.35) 49(7.62,-14.35) 50(8.89,-14.35) 51(10.16,-14.35) 52(11.43,-14.35) 53(12.7,-14.35) 75(12.7,14.35) 76(11.43,14.35) 77(10.16,14.35) 78(8.89,14.35) 79(7.62,14.35) 80(6.35,14.35) 81(5.08,14.35) 82(3.81,14.35) 83(2.54,14.35) 84(1.27,14.35)
  oval 2.1x0.9 smd: 12(-14.35,12.7) 13(-14.35,11.43) 14(-14.35,10.16) 15(-14.35,8.89) 16(-14.35,7.62) 17(-14.35,6.35) 18(-14.35,5.08) 19(-14.35,3.81) 20(-14.35,2.54) 21(-14.35,1.27) 22(-14.35,0) 23(-14.35,-1.27) 24(-14.35,-2.54) 25(-14.35,-3.81) 26(-14.35,-5.08) 27(-14.35,-6.35) 28(-14.35,-7.62) 29(-14.35,-8.89) 30(-14.35,-10.16) 31(-14.35,-11.43) 32(-14.35,-12.7) 54(14.35,-12.7) 55(14.35,-11.43) 56(14.35,-10.16) 57(14.35,-8.89) 58(14.35,-7.62) 59(14.35,-6.35) 60(14.35,-5.08) 61(14.35,-3.81) 62(14.35,-2.54) 63(14.35,-1.27) 64(14.35,0) 65(14.35,1.27) 66(14.35,2.54) 67(14.35,3.81) 68(14.35,5.08) 69(14.35,6.35) 70(14.35,7.62) 71(14.35,8.89) 72(14.35,10.16) 73(14.35,11.43) 74(14.35,12.7)
Top Overlay:
  circle w0.25: c0,15.95 r0.125
  circle w0.6: c0,10.9 r0.3
  lines w0.2: 12.9,11.9 -12.9,11.9 ; -12.9,11.9 -11.9,12.9 12.9,12.9 12.9,-12.9 -12.9,-12.9 -12.9,11.9
Mechanical 13:
  circle w0.1: c0,12.705 r0.5
  lines w0.1: 14.705,13.605 -14.705,13.605 ; -14.705,13.605 -14.705,-14.705 14.705,-14.705 14.705,14.705 -13.605,14.705 -14.705,13.605
Mechanical 15:
  lines w0.05: -15.5,-15.5 -15.5,15.5 15.5,15.5 15.5,-15.5 -15.5,-15.5
  lines w0.1: -0.5,0 0.5,0 ; 0,-0.5 0,0.5
3D body: height 5.08, standoff 0.51, extent -14.705,-14.705 14.705,14.705

## MCHP-PLCC-L84_M [mm] "PLCC, 84-Lead, Body 29.31x29.31mm, Pitch 1.27mm, IPC Low Density"
height 5.08
pads (84):
  oval 1x2.7 smd: 1(0,14.45) 2(-1.27,14.45) 3(-2.54,14.45) 4(-3.81,14.45) 5(-5.08,14.45) 6(-6.35,14.45) 7(-7.62,14.45) 8(-8.89,14.45) 9(-10.16,14.45) 10(-11.43,14.45) 11(-12.7,14.45) 33(-12.7,-14.45) 34(-11.43,-14.45) 35(-10.16,-14.45) 36(-8.89,-14.45) 37(-7.62,-14.45) 38(-6.35,-14.45) 39(-5.08,-14.45) 40(-3.81,-14.45) 41(-2.54,-14.45) 42(-1.27,-14.45) 43(0,-14.45) 44(1.27,-14.45) 45(2.54,-14.45) 46(3.81,-14.45) 47(5.08,-14.45) 48(6.35,-14.45) 49(7.62,-14.45) 50(8.89,-14.45) 51(10.16,-14.45) 52(11.43,-14.45) 53(12.7,-14.45) 75(12.7,14.45) 76(11.43,14.45) 77(10.16,14.45) 78(8.89,14.45) 79(7.62,14.45) 80(6.35,14.45) 81(5.08,14.45) 82(3.81,14.45) 83(2.54,14.45) 84(1.27,14.45)
  oval 2.7x1 smd: 12(-14.45,12.7) 13(-14.45,11.43) 14(-14.45,10.16) 15(-14.45,8.89) 16(-14.45,7.62) 17(-14.45,6.35) 18(-14.45,5.08) 19(-14.45,3.81) 20(-14.45,2.54) 21(-14.45,1.27) 22(-14.45,0) 23(-14.45,-1.27) 24(-14.45,-2.54) 25(-14.45,-3.81) 26(-14.45,-5.08) 27(-14.45,-6.35) 28(-14.45,-7.62) 29(-14.45,-8.89) 30(-14.45,-10.16) 31(-14.45,-11.43) 32(-14.45,-12.7) 54(14.45,-12.7) 55(14.45,-11.43) 56(14.45,-10.16) 57(14.45,-8.89) 58(14.45,-7.62) 59(14.45,-6.35) 60(14.45,-5.08) 61(14.45,-3.81) 62(14.45,-2.54) 63(14.45,-1.27) 64(14.45,0) 65(14.45,1.27) 66(14.45,2.54) 67(14.45,3.81) 68(14.45,5.08) 69(14.45,6.35) 70(14.45,7.62) 71(14.45,8.89) 72(14.45,10.16) 73(14.45,11.43) 74(14.45,12.7)
Top Overlay:
  circle w0.25: c0,16.35 r0.125
  circle w0.6: c0,10.7 r0.3
  lines w0.2: 12.7,11.7 -12.7,11.7 ; -12.7,11.7 -11.7,12.7 12.7,12.7 12.7,-12.7 -12.7,-12.7 -12.7,11.7
Mechanical 13:
  circle w0.1: c0,12.705 r0.5
  lines w0.1: 14.705,13.605 -14.705,13.605 ; -14.705,13.605 -14.705,-14.705 14.705,-14.705 14.705,14.705 -13.605,14.705 -14.705,13.605
Mechanical 15:
  lines w0.05: -16.3,-16.3 -16.3,16.3 16.3,16.3 16.3,-16.3 -16.3,-16.3
  lines w0.1: -0.5,0 0.5,0 ; 0,-0.5 0,0.5
3D body: height 5.08, standoff 0.51, extent -14.705,-14.705 14.705,14.705

## MCHP-PLCC-L84_N [mm] "PLCC, 84-Lead, Body 29.31x29.31mm, Pitch 1.27mm, IPC Medium Density"
height 5.08
pads (84):
  oval 0.9x2.4 smd: 1(0,14.4) 2(-1.27,14.4) 3(-2.54,14.4) 4(-3.81,14.4) 5(-5.08,14.4) 6(-6.35,14.4) 7(-7.62,14.4) 8(-8.89,14.4) 9(-10.16,14.4) 10(-11.43,14.4) 11(-12.7,14.4) 33(-12.7,-14.4) 34(-11.43,-14.4) 35(-10.16,-14.4) 36(-8.89,-14.4) 37(-7.62,-14.4) 38(-6.35,-14.4) 39(-5.08,-14.4) 40(-3.81,-14.4) 41(-2.54,-14.4) 42(-1.27,-14.4) 43(0,-14.4) 44(1.27,-14.4) 45(2.54,-14.4) 46(3.81,-14.4) 47(5.08,-14.4) 48(6.35,-14.4) 49(7.62,-14.4) 50(8.89,-14.4) 51(10.16,-14.4) 52(11.43,-14.4) 53(12.7,-14.4) 75(12.7,14.4) 76(11.43,14.4) 77(10.16,14.4) 78(8.89,14.4) 79(7.62,14.4) 80(6.35,14.4) 81(5.08,14.4) 82(3.81,14.4) 83(2.54,14.4) 84(1.27,14.4)
  oval 2.4x0.9 smd: 12(-14.4,12.7) 13(-14.4,11.43) 14(-14.4,10.16) 15(-14.4,8.89) 16(-14.4,7.62) 17(-14.4,6.35) 18(-14.4,5.08) 19(-14.4,3.81) 20(-14.4,2.54) 21(-14.4,1.27) 22(-14.4,0) 23(-14.4,-1.27) 24(-14.4,-2.54) 25(-14.4,-3.81) 26(-14.4,-5.08) 27(-14.4,-6.35) 28(-14.4,-7.62) 29(-14.4,-8.89) 30(-14.4,-10.16) 31(-14.4,-11.43) 32(-14.4,-12.7) 54(14.4,-12.7) 55(14.4,-11.43) 56(14.4,-10.16) 57(14.4,-8.89) 58(14.4,-7.62) 59(14.4,-6.35) 60(14.4,-5.08) 61(14.4,-3.81) 62(14.4,-2.54) 63(14.4,-1.27) 64(14.4,0) 65(14.4,1.27) 66(14.4,2.54) 67(14.4,3.81) 68(14.4,5.08) 69(14.4,6.35) 70(14.4,7.62) 71(14.4,8.89) 72(14.4,10.16) 73(14.4,11.43) 74(14.4,12.7)
Top Overlay:
  circle w0.25: c0,16.15 r0.125
  circle w0.6: c0,10.8 r0.3
  lines w0.2: 12.8,11.8 -12.8,11.8 ; -12.8,11.8 -11.8,12.8 12.8,12.8 12.8,-12.8 -12.8,-12.8 -12.8,11.8
Mechanical 13:
  circle w0.1: c0,12.705 r0.5
  lines w0.1: 14.705,13.605 -14.705,13.605 ; -14.705,13.605 -14.705,-14.705 14.705,-14.705 14.705,14.705 -13.605,14.705 -14.705,13.605
Mechanical 15:
  lines w0.05: -15.85,-15.85 -15.85,15.85 15.85,15.85 15.85,-15.85 -15.85,-15.85
  lines w0.1: -0.5,0 0.5,0 ; 0,-0.5 0,0.5
3D body: height 5.08, standoff 0.51, extent -14.705,-14.705 14.705,14.705

## MCHP-QFN-ML20_L [mm] "QFN, 20-Leads, Body 4x4mm, Pitch 0.5mm, Thermal Pad 2.7x2.7mm, IPC High Density"
height 1
pads (21):
  oval 0.6x0.25 smd: 1(-2,1) 2(-2,0.5) 3(-2,0) 4(-2,-0.5) 5(-2,-1) 11(2,-1) 12(2,-0.5) 13(2,0) 14(2,0.5) 15(2,1)
  oval 0.25x0.6 smd: 6(-1,-2) 7(-0.5,-2) 8(0,-2) 9(0.5,-2) 10(1,-2) 16(1,2) 17(0.5,2) 18(0,2) 19(-0.5,2) 20(-1,2)
  rect 2.7x2.7 smd: 21(0,0)
via 0.55,-0.55 diameter 0.5 hole 0.2
via -0.55,-0.55 diameter 0.5 hole 0.2
via 0.55,0.55 diameter 0.5 hole 0.2
via -0.55,0.55 diameter 0.5 hole 0.2
Top Overlay:
  circle w0.25: c-2.8,2 r0.125
  lines w0.2: -2.15,-1.525 -2.15,-2.15 -1.525,-2.15 ; -2.15,1.525 -2.15,2.15 -1.525,2.15 ; 1.525,-2.15 2.15,-2.15 2.15,-1.525 ; 1.525,2.15 2.15,2.15 2.15,1.525
Mechanical 13:
  circle w0.1: c-1.1,1.1 r0.5
  lines w0.1: -2,-2 2,-2 2,2 -2,2 -2,-2
Mechanical 15:
  lines w0.05: -2.375,-2.375 2.375,-2.375 2.375,2.375 -2.375,2.375 -2.375,-2.375
  lines w0.1: -0.5,0 0.5,0 ; 0,-0.5 0,0.5
3D body: height 1, standoff 0, extent -2,-2 2,2

## MCHP-QFN-ML20_M [mm] "QFN, 20-Leads, Body 4x4mm, Pitch 0.5mm, Thermal Pad 2.7x2.7mm, IPC Low Density"
height 1
pads (21):
  oval 0.8x0.25 smd: 1(-2.1,1) 2(-2.1,0.5) 3(-2.1,0) 4(-2.1,-0.5) 5(-2.1,-1) 11(2.1,-1) 12(2.1,-0.5) 13(2.1,0) 14(2.1,0.5) 15(2.1,1)
  oval 0.25x0.8 smd: 6(-1,-2.1) 7(-0.5,-2.1) 8(0,-2.1) 9(0.5,-2.1) 10(1,-2.1) 16(1,2.1) 17(0.5,2.1) 18(0,2.1) 19(-0.5,2.1) 20(-1,2.1)
  rect 2.7x2.7 smd: 21(0,0)
via 0.55,-0.55 diameter 0.5 hole 0.2
via -0.55,-0.55 diameter 0.5 hole 0.2
via 0.55,0.55 diameter 0.5 hole 0.2
via -0.55,0.55 diameter 0.5 hole 0.2
Top Overlay:
  circle w0.25: c-2.8,2 r0.125
  lines w0.2: -2.15,-1.525 -2.15,-2.15 -1.525,-2.15 ; -2.15,1.525 -2.15,2.15 -1.525,2.15 ; 1.525,-2.15 2.15,-2.15 2.15,-1.525 ; 1.525,2.15 2.15,2.15 2.15,1.525
Mechanical 13:
  circle w0.1: c-1.1,1.1 r0.5
  lines w0.1: -2,-2 2,-2 2,2 -2,2 -2,-2
Mechanical 15:
  lines w0.05: -2.975,-2.975 2.975,-2.975 2.975,2.975 -2.975,2.975 -2.975,-2.975
  lines w0.1: -0.5,0 0.5,0 ; 0,-0.5 0,0.5
3D body: height 1, standoff 0, extent -2,-2 2,2

## MCHP-QFN-ML20_N [mm] "QFN, 20-Leads, Body 4x4mm, Pitch 0.5mm, Thermal Pad 2.7x2.7mm, IPC Medium Density"
height 1
pads (21):
  oval 0.75x0.25 smd: 1(-2.025,1) 2(-2.025,0.5) 3(-2.025,0) 4(-2.025,-0.5) 5(-2.025,-1) 11(2.025,-1) 12(2.025,-0.5) 13(2.025,0) 14(2.025,0.5) 15(2.025,1)
  oval 0.25x0.75 smd: 6(-1,-2.025) 7(-0.5,-2.025) 8(0,-2.025) 9(0.5,-2.025) 10(1,-2.025) 16(1,2.025) 17(0.5,2.025) 18(0,2.025) 19(-0.5,2.025) 20(-1,2.025)
  rect 2.7x2.7 smd: 21(0,0)
via 0.55,-0.55 diameter 0.5 hole 0.2
via -0.55,-0.55 diameter 0.5 hole 0.2
via 0.55,0.55 diameter 0.5 hole 0.2
via -0.55,0.55 diameter 0.5 hole 0.2
Top Overlay:
  circle w0.25: c-2.8,2 r0.125
  lines w0.2: -2.15,-1.525 -2.15,-2.15 -1.525,-2.15 ; -2.15,1.525 -2.15,2.15 -1.525,2.15 ; 1.525,-2.15 2.15,-2.15 2.15,-1.525 ; 1.525,2.15 2.15,2.15 2.15,1.525
Mechanical 13:
  circle w0.1: c-1.1,1.1 r0.5
  lines w0.1: -2,-2 2,-2 2,2 -2,2 -2,-2
Mechanical 15:
  lines w0.05: -2.625,-2.625 2.625,-2.625 2.625,2.625 -2.625,2.625 -2.625,-2.625
  lines w0.1: -0.5,0 0.5,0 ; 0,-0.5 0,0.5
3D body: height 1, standoff 0, extent -2,-2 2,2

## MCHP-QFN-ML28_L [mm] "QFN, 28-Leads, Body 6x6mm, Pitch 0.65mm, Thermal Pad 3.7x3.7mm, IPC High Density"
height 1
pads (29):
  oval 0.8x0.25 smd: 1(-2.9,1.95) 2(-2.9,1.3) 3(-2.9,0.65) 4(-2.9,0) 5(-2.9,-0.65) 6(-2.9,-1.3) 7(-2.9,-1.95) 15(2.9,-1.95) 16(2.9,-1.3) 17(2.9,-0.65) 18(2.9,0) 19(2.9,0.65) 20(2.9,1.3) 21(2.9,1.95)
  oval 0.25x0.8 smd: 8(-1.95,-2.9) 9(-1.3,-2.9) 10(-0.65,-2.9) 11(0,-2.9) 12(0.65,-2.9) 13(1.3,-2.9) 14(1.95,-2.9) 22(1.95,2.9) 23(1.3,2.9) 24(0.65,2.9) 25(0,2.9) 26(-0.65,2.9) 27(-1.3,2.9) 28(-1.95,2.9)
  rect 3.93x3.93 smd: 29(0,0)
via -1.1,1.1 diameter 0.5 hole 0.2
via 0,1.1 diameter 0.5 hole 0.2
via 1.1,1.1 diameter 0.5 hole 0.2
via -1.1,0 diameter 0.5 hole 0.2
via 0,0 diameter 0.5 hole 0.2
via 1.1,0 diameter 0.5 hole 0.2
via -1.1,-1.1 diameter 0.5 hole 0.2
via 0,-1.1 diameter 0.5 hole 0.2
via 1.1,-1.1 diameter 0.5 hole 0.2
Top Overlay:
  circle w0.25: c-3.8,3 r0.125
  lines w0.2: -3.15,-2.475 -3.15,-3.15 -2.475,-3.15 ; -3.15,2.475 -3.15,3.15 -2.475,3.15 ; 2.475,-3.15 3.15,-3.15 3.15,-2.475 ; 2.475,3.15 3.15,3.15 3.15,2.475
Mechanical 13:
  circle w0.1: c-2.1,2.1 r0.5
  lines w0.1: -3,-3 -3,3 3,3 3,-3 -3,-3
Mechanical 15:
  lines w0.05: -3.375,-3.375 -3.375,3.375 3.375,3.375 3.375,-3.375 -3.375,-3.375
  lines w0.1: -0.5,0 0.5,0 ; 0,-0.5 0,0.5
3D body: height 1, standoff 0, extent -3,-3 3,3

## MCHP-QFN-ML28_M [mm] "QFN, 28-Leads, Body 6x6mm, Pitch 0.65mm, Thermal Pad 3.7x3.7mm, IPC Low Density"
height 1
pads (29):
  oval 1x0.3 smd: 1(-3,1.95) 2(-3,1.3) 3(-3,0.65) 4(-3,0) 5(-3,-0.65) 6(-3,-1.3) 7(-3,-1.95) 15(3,-1.95) 16(3,-1.3) 17(3,-0.65) 18(3,0) 19(3,0.65) 20(3,1.3) 21(3,1.95)
  oval 0.3x1 smd: 8(-1.95,-3) 9(-1.3,-3) 10(-0.65,-3) 11(0,-3) 12(0.65,-3) 13(1.3,-3) 14(1.95,-3) 22(1.95,3) 23(1.3,3) 24(0.65,3) 25(0,3) 26(-0.65,3) 27(-1.3,3) 28(-1.95,3)
  rect 3.93x3.93 smd: 29(0,0)
via -1.1,1.1 diameter 0.5 hole 0.2
via 0,1.1 diameter 0.5 hole 0.2
via 1.1,1.1 diameter 0.5 hole 0.2
via -1.1,0 diameter 0.5 hole 0.2
via 0,0 diameter 0.5 hole 0.2
via 1.1,0 diameter 0.5 hole 0.2
via -1.1,-1.1 diameter 0.5 hole 0.2
via 0,-1.1 diameter 0.5 hole 0.2
via 1.1,-1.1 diameter 0.5 hole 0.2
Top Overlay:
  circle w0.25: c-3.8,3 r0.125
  lines w0.2: -3.15,-2.5 -3.15,-3.15 -2.5,-3.15 ; -3.15,2.5 -3.15,3.15 -2.5,3.15 ; 2.5,-3.15 3.15,-3.15 3.15,-2.5 ; 2.5,3.15 3.15,3.15 3.15,2.5
Mechanical 13:
  circle w0.1: c-2.1,2.1 r0.5
  lines w0.1: -3,-3 -3,3 3,3 3,-3 -3,-3
Mechanical 15:
  lines w0.05: -3.975,-3.975 -3.975,3.975 3.975,3.975 3.975,-3.975 -3.975,-3.975
  lines w0.1: -0.5,0 0.5,0 ; 0,-0.5 0,0.5
3D body: height 1, standoff 0, extent -3,-3 3,3